# EAGLE library part 10117836-002LF (library USB_SMT_3)
Usb, 3.0 Type A, Receptacle, SMT
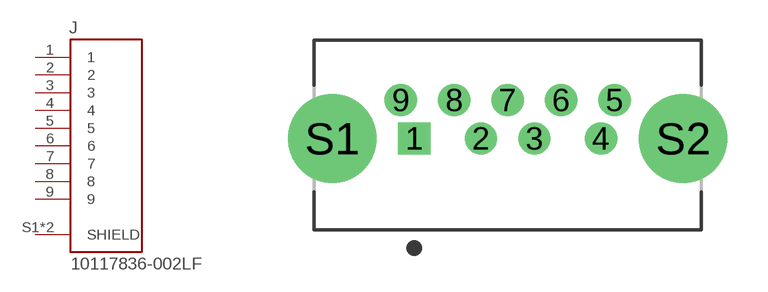
[diagram p0: symbol with the pads of AMPHENOL_10117836-002LF; footprint AMPHENOL_10117836-002LF]

Designator prefix J

## 10117836-002LF (Availability: Unavailable; Description: Usb, 3.0 Type A, Receptacle, SMT; MF: Amphenol FCI; MP: 10117836-002LF; Package: None; Price: None)  [AMPHENOL_10117836-002LF]
1  1  pas
2  2  pas
3  3  pas
4  4  pas
5  5  pas
6  6  pas
7  7  pas
8  8  pas
9  9  pas
S1  SHIELD  pas
S2  SHIELD  pas

## Footprint AMPHENOL_10117836-002LF (pad centres in mm)
drill 0.7 square: 1 -3.5,0
drill 0.7: 2 -1,0; 3 1,0; 4 3.5,0; 5 4,1.44; 6 2,1.44; 7 0,1.44; 8 -2,1.44; 9 -4,1.44
drill 2.3: S1 -6.57,0; S2 6.57,0